# Altium footprint library SIT5156AI-FK-33E0-25.000000X.PcbLib: 1 footprints
Each footprint in its own frame and in the unit in brackets; x right, y up, seen from the top. Pads: shape width x height; smd on the part's side, far side on the other; paste and mask are expansions set on the pad; w line width, h text height; cw(c..) or ccw(c..) is an arc to the next point about the centre after c.
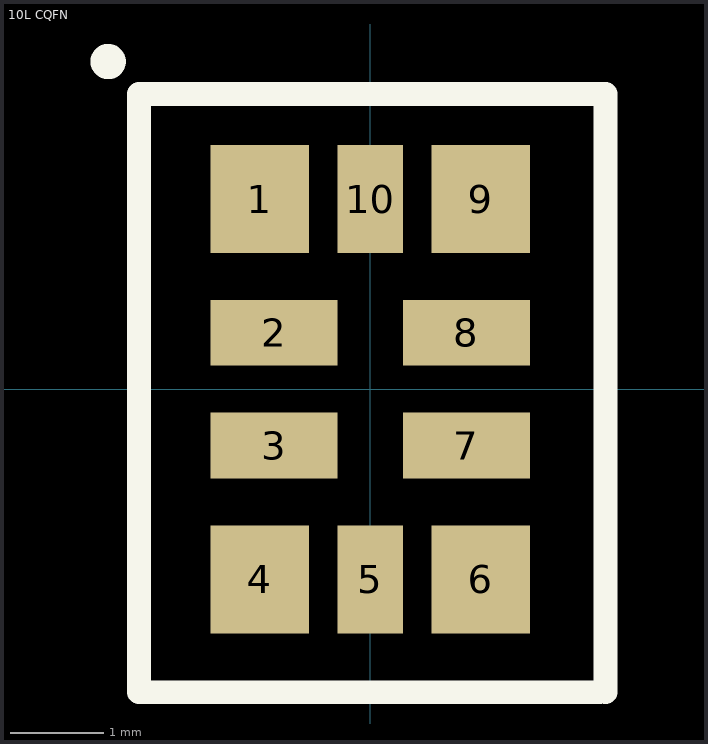
[diagram p0: the footprint, top view; thin cyan lines are the x and y axes]

## 10L CQFN [mm]
height 0.95
pads (10):
  rect 1.05x1.15 smd: 1(-1.175,2.025) 4(-1.175,-2.025) 6(1.175,-2.025) 9(1.175,2.025)
  rect 1.35x0.7 smd: 2(-1.025,0.6) 3(-1.025,-0.6) 7(1.025,-0.6) 8(1.025,0.6)
  rect 0.7x1.15 smd: 5(0,-2.025) 10(0,2.025)
Top Overlay:
  circle w0.254: c-2.792,3.49 r0.061
  lines w0.254: 2.442,-3.227 -2.462,-3.227 -2.462,3.146 2.507,3.146 2.507,-3.227
3D body: height 0.95, standoff 0, extent -2.367,-4.863 -2.367,-4.863
3D body: height 0.95, standoff 0, extent -1.608,-2.515 1.601,2.513